# Altium schematic symbol library 连接件.SchLib: 9 symbols
Pins are listed as number, name and electrical type; pins without a type are passive.

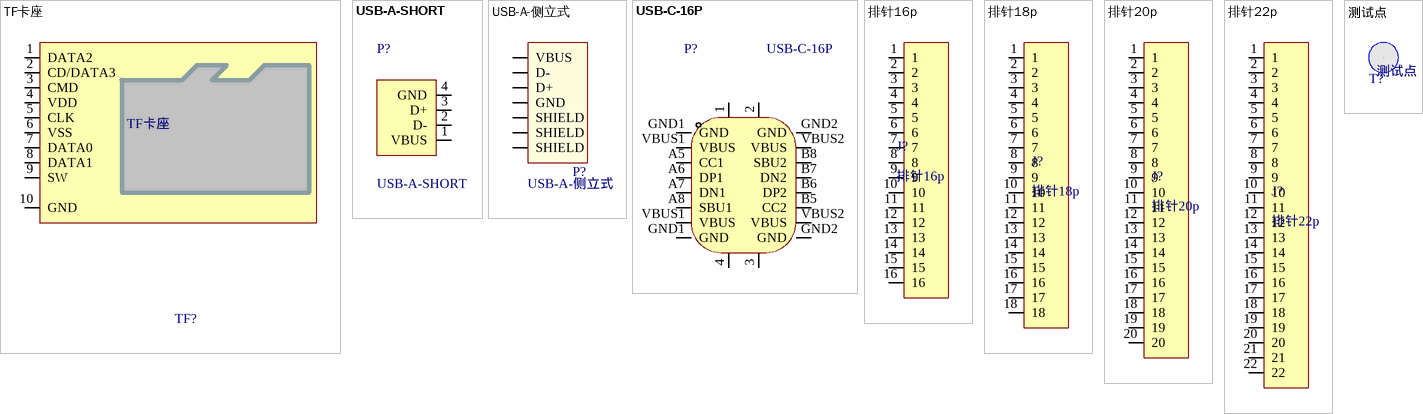
[diagram p0: symbols TF卡座 to 测试点]

## TF卡座
designator TF?
footprint TF-SOCKET
footprint TF-SOCKET-SHORT
pins: 1 DATA2, 2 CD/DATA3, 3 CMD, 4 VDD, 5 CLK, 6 VSS, 7 DATA0, 8 DATA1, 9 SW, 10 GND

## USB-A-SHORT
designator P?
footprint USB-A-SHORT
pins: 1 VBUS, 2 D-, 3 D+, 4 GND

## USB-A-侧立式
designator P?
MF: Global Connector Technology; MP: USB1025-GF-P-B; Availability: Unavailable; Price: None; SnapEDA_Link: https://www.snapeda.com/parts/USB1025-GF-P-B/Global%20Connector%20Technology/view-part/?ref=snap; Package: None; Value: *
footprint USB-A-侧立式
pins: 1 VBUS, 2 D-, 3 D+, 4 GND, 5 SHIELD, 6 SHIELD, 7 SHIELD

## USB-C-16P
designator P?
footprint USB-C-16P
pins: 1 2, 2, 3, 4, A5 CC1, A6 DP1, A7 DN1, A8 SBU1, B5 CC2, B6 DP2, B7 DN2, B8 SBU2, GND1 GND, GND1 GND, GND2 GND, GND2 GND, VBUS1 VBUS, VBUS1 VBUS, VBUS2 VBUS, VBUS2 VBUS

## 排针16p
designator J?
footprint 排针16p
pins: 1, 2, 3, 4, 5, 6, 7, 8, 9, 10, 11, 12, 13, 14, 15, 16

## 排针18p
designator J?
footprint 排针18p
pins: 1, 2, 3, 4, 5, 6, 7, 8, 9, 10, 11, 12, 13, 14, 15, 16, 17, 18

## 排针20p
designator J?
footprint 排针20p
pins: 1, 2, 3, 4, 5, 6, 7, 8, 9, 10, 11, 12, 13, 14, 15, 16, 17, 18, 19, 20

## 排针22p
designator J?
footprint 排针22P
pins: 1, 2, 3, 4, 5, 6, 7, 8, 9, 10, 11, 12, 13, 14, 15, 16, 17, 18, 19, 20, 21, 22

## 测试点
designator T?
footprint TEST-POINT
pins: 0